# EAGLE library part SN74LVC2G14 (library SN74LVC2G14)
DUAL SCHMITT-TRIGGER INVERTER
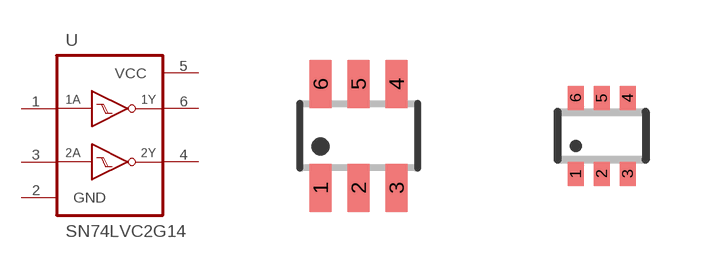
[diagram p0: symbol with the pads of SOT23-6; footprints SOT23-6, SC70-6]

Designator prefix U

## SN74LVC2G14DBV (Availability: Unavailable; Description: Inverter IC 2 Channel Schmitt Trigger SOT-23-6; MF: Texas Instruments; MP: SN74LVC2G14; Package: None; Price: None)  [SOT23-6]
1  1A  in
2  GND  pwr
3  2A  in
4  2Y  out
5  VCC  pwr
6  1Y  out

## SN74LVC2G14DCK (Availability: Unavailable; Description: Inverter IC 2 Channel Schmitt Trigger SOT-23-6; MF: Texas Instruments; MP: SN74LVC2G14; Package: None; Price: None)  [SC70-6]
Pads as for SOT23-6

## Footprint SOT23-6 (pad centres in mm)
SOT-23 - DBV 0.95 mm pitch
smd 0.55 x 1.2: 1 -0.95,-1.3; 2 0,-1.3; 3 0.95,-1.3; 4 0.95,1.3; 5 0,1.3; 6 -0.95,1.3

## Footprint SC70-6 (pad centres in mm)
SC70 - DCK 0.65 mm pitch
smd 0.4 x 0.6: 1 -0.65,-0.95; 2 0,-0.95; 3 0.65,-0.95; 4 0.65,0.95; 5 0,0.95; 6 -0.65,0.95